# EAGLE library part ST4PIN1MM (library Nick'sEagle)
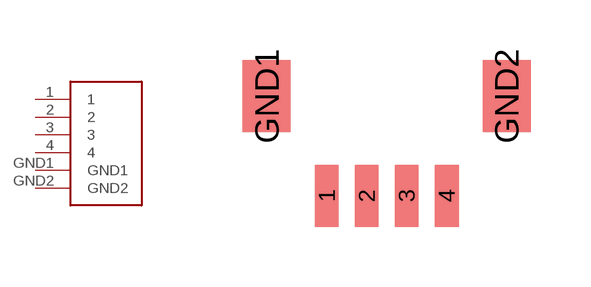
[diagram p7: symbol with the pads of SH1MM4PIN; footprint SH1MM4PIN]

Designator prefix -

## ST4PIN1MM  [SH1MM4PIN]
1  1
2  2
3  3
4  4
GND1  GND1
GND2  GND2

## Footprint SH1MM4PIN (pad centres in mm)
smd 0.6 x 1.55: 1 -1,0; 2 0,0; 3 1,0; 4 2,0
smd 1.2 x 1.8: GND1 -2.5,2.5; GND2 3.5,2.5